# Altium footprint library MF_MiscLib.PcbLib: 108 footprints (part 1 of 7)
Each footprint in its own frame and in the unit in brackets; x right, y up, seen from the top. Pads: shape width x height; smd on the part's side, far side on the other; paste and mask are expansions set on the pad; w line width, h text height; cw(c..) or ccw(c..) is an arc to the next point about the centre after c.
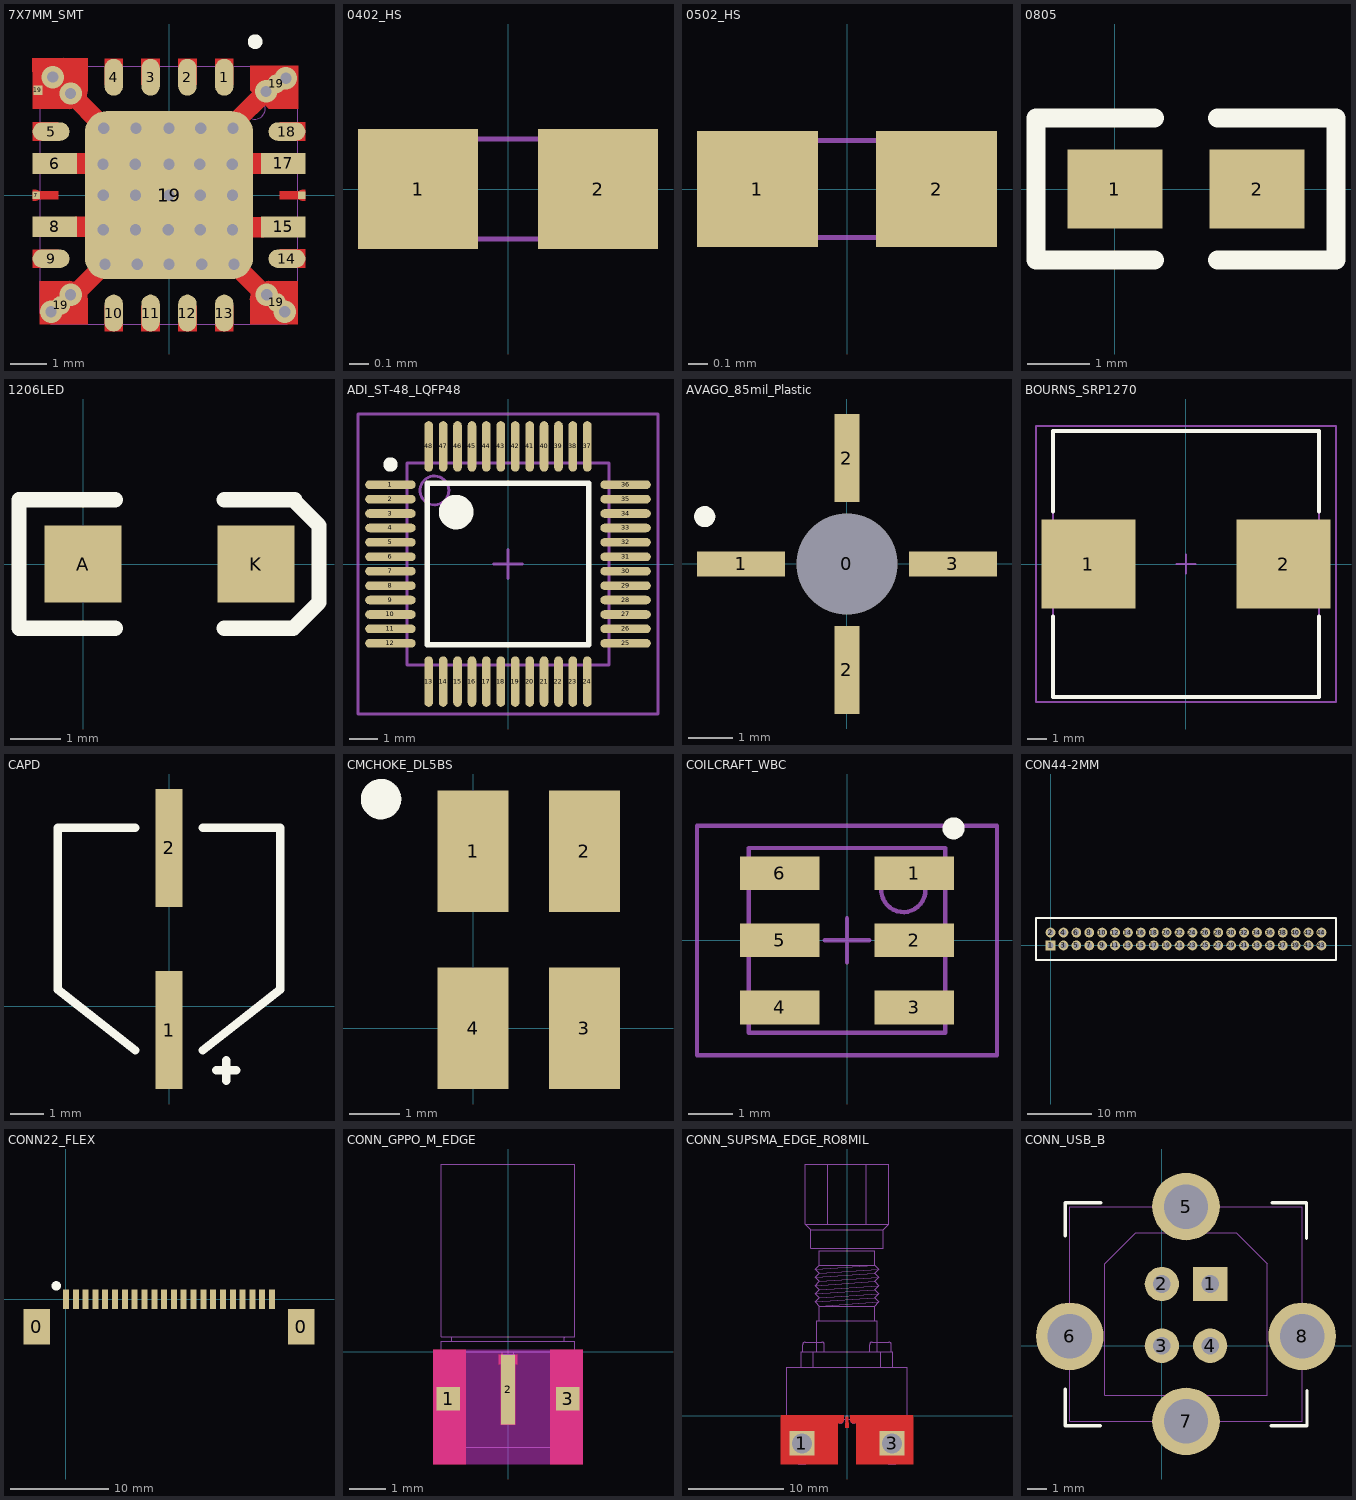
[diagram p0: the footprints below, top view; thin cyan lines are the x and y axes]

## 7X7MM_SMT [mm]
pads (23):
  oval 0.5x1 smd: 1(1.5,3.2) 2(0.5,3.2) 3(-0.5,3.2) 4(-1.5,3.2) 10(-1.5,-3.2) 11(-0.5,-3.2) 12(0.5,-3.2) 13(1.5,-3.2)
  oval 1x0.5 smd: 5(-3.2,1.725) 9(-3.2,-1.725) 14(3.2,-1.725) 18(3.2,1.725)
  rect 1.205x0.567 smd: 6(-3.102,0.855) 8(-3.102,-0.859) 15(3.104,-0.864) 17(3.098,0.861)
  rect 0.2x0.2 smd: 7(-3.6,0) 16(3.6,0)
  rect 0.254x0.254 smd: 19(-3.557,2.842)
  round 0.508 smd: 19(-2.934,-2.992) 19(2.916,-2.909) 19(2.916,3.023)
  rrect25% 4.56x4.56 all layers, no hole: 19(0,0)
via -3.154,3.205 diameter 0.61 hole 0.305
via 1.737,1.813 diameter 0.61 hole 0.305
via 0.86,1.813 diameter 0.61 hole 0.305
via 0,1.813 diameter 0.61 hole 0.305
via -0.893,1.813 diameter 0.61 hole 0.305
via -1.77,1.813 diameter 0.61 hole 0.305
via -1.793,0.84 diameter 0.61 hole 0.305
via -0.916,0.84 diameter 0.61 hole 0.305
via 0,0.84 diameter 0.61 hole 0.305
via 0.837,0.84 diameter 0.61 hole 0.305
via 1.714,0.84 diameter 0.61 hole 0.305
via -1.785,0 diameter 0.61 hole 0.305
via -0.908,0 diameter 0.61 hole 0.305
via 0.845,0 diameter 0.61 hole 0.305
via 1.722,0 diameter 0.61 hole 0.305
via -0.906,-0.941 diameter 0.61 hole 0.305
via 0.847,-0.941 diameter 0.61 hole 0.305
via 1.724,-0.941 diameter 0.61 hole 0.305
via -1.74,-1.875 diameter 0.61 hole 0.305
via -0.863,-1.875 diameter 0.61 hole 0.305
via 0,-1.875 diameter 0.61 hole 0.305
via 0.89,-1.875 diameter 0.61 hole 0.305
via 1.767,-1.875 diameter 0.61 hole 0.305
via -0.021,-0.941 diameter 0.61 hole 0.305
via -2.67,2.758 diameter 0.61 hole 0.305
via 3.172,3.172 diameter 0.61 hole 0.305
via 2.634,2.816 diameter 0.61 hole 0.305
via 3.139,-3.166 diameter 0.61 hole 0.305
via 2.651,-2.703 diameter 0.61 hole 0.305
via -3.199,-3.166 diameter 0.61 hole 0.305
via -2.67,-2.703 diameter 0.61 hole 0.305
via 0,0 diameter 0.61 hole 0.305
via -1.783,-0.941 diameter 0.61 hole 0.305
Top Layer:
  rectangle: 2.177,0.573 2.585,1.139
  rectangle: 2.174,-1.156 2.582,-0.59
  rectangle: -2.557,-1.141 -2.149,-0.575
  rectangle: -2.576,0.577 -2.168,1.143
  region: -3.699,2.347 -3.699,2.972 -3.715,3.716 -2.869,3.727 -2.201,3.721 -2.202,2.843 -2.241,2.648 -2.351,2.482 -2.517,2.372 -2.712,2.333 -2.712,2.343
  region: 1.25,3 1.25,3.7 1.75,3.7 1.75,3
  region: 0.25,3 0.25,3.7 0.75,3.7 0.75,3
  region: -0.75,3 -0.75,3.7 -0.25,3.7 -0.25,3
  region: -1.75,3 -1.75,3.7 -1.25,3.7 -1.25,3
  region: -3.7,1.976 -3,1.976 -3,1.475 -3.7,1.475
  region: -3.7,0.15 -3.6,0.15 -3.5,0.11 -3.001,0.11 -3.001,-0.11 -3.5,-0.11 -3.6,-0.15 -3.7,-0.15
  region: -3.7,-1.475 -3,-1.475 -3,-1.975 -3.7,-1.975
  region: -1.75,-3.7 -1.75,-3 -1.25,-3 -1.25,-3.7
  region: -0.75,-3.7 -0.75,-3 -0.25,-3 -0.25,-3.7
  region: 0.25,-3.7 0.25,-3 0.75,-3 0.75,-3.7
  region: 1.25,-3.7 1.25,-3 1.75,-3 1.75,-3.7
  region: 3,-1.473 3.7,-1.473 3.7,-1.973 3,-1.973
  region: 3.7,0.15 3.6,0.15 3.5,0.11 3,0.11 3,-0.11 3.5,-0.11 3.6,-0.15 3.7,-0.15
  region: 3,1.976 3.7,1.976 3.7,1.475 3,1.475
  region: 2.206,3.512 2.206,2.844 2.706,2.344 3.502,2.344 3.502,3.512
  region: 2.701,-2.324 2.506,-2.363 2.34,-2.473 2.23,-2.639 2.191,-2.834 2.201,-2.834 2.201,-3.502 3.496,-3.502 3.496,-2.334 2.701,-2.334
  region: -3.505,-3.505 -3.505,-2.337 -2.71,-2.327 -2.515,-2.366 -2.349,-2.476 -2.239,-2.642 -2.2,-2.837 -2.21,-2.837 -2.21,-3.505
  lines w0.254: -2.934,-2.992 -2.857,-2.992 ; -1.817,-1.875 -1.74,-1.875 ; -1.77,1.858 -1.77,1.813 -1.77,1.876 ; 1.767,-1.875 1.823,-1.875 ; 2.595,-2.703 2.651,-2.703 ; 1.737,1.813 1.737,1.919 1.737,1.813
  lines w0.508: -2.857,-2.992 -1.74,-1.875 ; -2.67,2.758 -1.77,1.858 ; 1.737,1.919 2.634,2.816 ; 1.767,-1.875 2.595,-2.703
Top Overlay:
  circle w0.254: c2.337,4.166 r0.072
Top Paste:
  drawing of 26 lines, arcs and shapes, not listed
Top Solder:
  region: -3.708,3.708 3.708,3.708 3.708,-3.708 -3.708,-3.708
Bottom Solder:
  region: -3.708,3.708 3.708,3.708 3.708,-3.708 -3.708,-3.708
Mechanical 15:
  circle w0.025: c2.337,2.337 r0.274
  lines w0.025: -3.5,-3.2 cw(c-3.55,-3.55) -3.2,-3.5 -1.7,-3.5 cw(c-1.5,-3.5) -1.3,-3.5 -0.7,-3.5 cw(c-0.5,-3.5) -0.3,-3.5 0.3,-3.5 cw(c0.5,-3.5) 0.7,-3.5 1.3,-3.5 cw(c1.5,-3.5) 1.7,-3.5 3.2,-3.5 cw(c3.55,-3.55) 3.5,-3.2 3.5,-1.92 cw(c3.5,-1.72) 3.5,-1.52 3.5,-1.05 cw(c3.5,-0.85) 3.5,-0.65 3.5,0.65 cw(c3.5,0.85) 3.5,1.05 3.5,1.52 cw(c3.5,1.72) 3.5,1.92 3.5,3.2 cw(c3.55,3.55) 3.2,3.5 1.7,3.5 cw(c1.5,3.5) 1.3,3.5 0.7,3.5 cw(c0.5,3.5) 0.3,3.5 -0.3,3.5 cw(c-0.5,3.5) -0.7,3.5 -1.3,3.5 cw(c-1.5,3.5) -1.7,3.5 -3.2,3.5 cw(c-3.55,3.55) -3.5,3.2 -3.5,1.92 cw(c-3.5,1.72) -3.5,1.52 -3.5,1.05 cw(c-3.5,0.85) -3.5,0.65 -3.5,-0.65 cw(c-3.5,-0.85) -3.5,-1.05 -3.5,-1.52 cw(c-3.5,-1.72) -3.5,-1.92 -3.5,-3.2
3D body: height 1.79, standoff 0, extent -3.501,-3.501 3.501,3.501

## 0402_HS [mil]
pads (2):
  rrect0% 24x24 smd: 1(-18,0) 2(18,0)
Mechanical 15:
  lines w1: -20,-10 -20,10 20,10 20,-10 -20,-10

## 0502_HS [mil]
pads (2):
  rect 25x24 smd: 1(-18.5,0) 2(18.5,0)
Mechanical 15:
  lines w1: -25,-10 -25,10 25,10 25,-10 -25,-10

## 0805 [mil]
pads (2):
  rect 60x50 smd: 1(0,0) 2(90,0)
Top Overlay:
  lines w12: 25,-45 -50,-45 -50,45 25,45 ; 65,-45 140,-45 140,45 65,45

## 1206LED [mil]
pads (2):
  rect 60x60 smd: A(0,0.33) K(135,0.33)
Top Overlay:
  lines w12: 25,-49.67 -50,-49.67 -50,50.33 25,50.33 ; 110,-49.67 164,-49.67 184,-29.67 184,30.33 165,49.33 165,50.33 110,50.33

## ADI_ST-48_LQFP48 [mm] "LQFP, 48-Leads, Body 9.2x9.2mm (max), Pitch 0.50mm, IPC Medium Density"
height 1.6
pads (48):
  oval 1.75x0.3 smd: 1(-4.075,2.75) 2(-4.075,2.25) 3(-4.075,1.75) 4(-4.075,1.25) 5(-4.075,0.75) 6(-4.075,0.25) 7(-4.075,-0.25) 8(-4.075,-0.75) 9(-4.075,-1.25) 10(-4.075,-1.75) 11(-4.075,-2.25) 12(-4.075,-2.75) 25(4.075,-2.75) 26(4.075,-2.25) 27(4.075,-1.75) 28(4.075,-1.25) 29(4.075,-0.75) 30(4.075,-0.25) 31(4.075,0.25) 32(4.075,0.75) 33(4.075,1.25) 34(4.075,1.75) 35(4.075,2.25) 36(4.075,2.75)
  oval 0.3x1.75 smd: 13(-2.75,-4.075) 14(-2.25,-4.075) 15(-1.75,-4.075) 16(-1.25,-4.075) 17(-0.75,-4.075) 18(-0.25,-4.075) 19(0.25,-4.075) 20(0.75,-4.075) 21(1.25,-4.075) 22(1.75,-4.075) 23(2.25,-4.075) 24(2.75,-4.075) 37(2.75,4.075) 38(2.25,4.075) 39(1.75,4.075) 40(1.25,4.075) 41(0.75,4.075) 42(0.25,4.075) 43(-0.25,4.075) 44(-0.75,4.075) 45(-1.25,4.075) 46(-1.75,4.075) 47(-2.25,4.075) 48(-2.75,4.075)
Top Overlay:
  circle w0.6: c-1.8,1.8 r0.3
  circle w0.25: c-4.075,3.45 r0.125
  lines w0.2: -2.8,-2.8 2.8,-2.8 2.8,2.8 -2.8,2.8 -2.8,-2.8
Mechanical 13:
  circle w0.1: c-2.55,2.55 r0.5
  lines w0.1: -3.5,-3.5 3.5,-3.5 3.5,3.5 -3.5,3.5 -3.5,-3.5
Mechanical 15:
  lines w0.1: -0.5,0 0.5,0 ; 0,-0.5 0,0.5 ; -5.2,-5.2 5.2,-5.2 5.2,5.2 -5.2,5.2 -5.2,-5.2
3D body: height 1.6, standoff 0.05, extent -3.5,-3.5 3.5,3.5

## AVAGO_85mil_Plastic [mm]
height 1.25
pads (5):
  round 1.524 hole 2.28 unplated: 0(0,0)
  rect 2x0.56 smd: 1(-2.4,0) 3(2.4,0)
  rect 0.56x2 smd: 2(0,-2.4) 2(0,2.4)
Top Overlay:
  circle w0.254: c-3.225,1.075 r0.112

## BOURNS_SRP1270 [mm] "Precision Wire Wound Inductor, 2-Leads, Body 13.7x13.7mm, IPC Medium Density"
height 7
pads (2):
  rect 4.85x4.6 smd: 1(-5.025,0) 2(5.025,0)
Top Overlay:
  lines w0.2: -6.85,-2.7 -6.85,-6.85 6.85,-6.85 6.85,-2.7 ; -6.85,2.7 -6.85,6.85 6.85,6.85 6.85,2.7
Mechanical 13:
  lines w0.1: -6.85,-6.85 6.85,-6.85 6.85,6.85 -6.85,6.85 -6.85,-6.85
Mechanical 15:
  lines w0.1: -0.5,0 0.5,0 ; 0,-0.5 0,0.5 ; -7.725,-7.1 7.725,-7.1 7.725,7.1 -7.725,7.1 -7.725,-7.1
3D body: height 7, standoff 0, extent -6.85,-6.85 6.85,6.85

## CAPD [mm]
pads (2):
  rect 0.8x3.5 smd: 1(0,-0.7) 2(0,4.7)
Top Overlay:
  lines w0.254: -1,-1.3 -3.3,0.5 -3.3,5.3 -1,5.3 ; 1,-1.3 3.3,0.5 3.3,5.3 1,5.3 ; 1.4,-1.9 2,-1.9 ; 1.7,-2.2 1.7,-1.6

## CMCHOKE_DL5BS [mm] "Murata common mode choke"
height 4.5
pads (4):
  rect 1.4x2.4 smd: 1(0,3.5) 2(2.2,3.5) 3(2.2,0) 4(0,0)
Top Overlay:
  circle w0.4: c-1.819,4.531 r0.2
3D body: height 4.5, standoff 0.4, extent -1.41,-0.753 3.59,4.247

## COILCRAFT_WBC [mm] "COILCRAFT WBC SMT TRANSFORMER"
height 3.05
pads (6):
  rect 1.8x0.76 smd: 1(1.525,1.52) 2(1.525,0) 3(1.525,-1.52) 4(-1.525,-1.52) 5(-1.525,0) 6(-1.525,1.52)
Top Overlay:
  circle w0.25: c2.415,2.54 r0.125
Mechanical 13:
  circle w0.1: c1.278,1.143 r0.5
  lines w0.1: -2.225,-2.095 2.225,-2.095 2.225,2.095 -2.225,2.095 -2.225,-2.095
Mechanical 15:
  lines w0.1: -0.5,0 0.5,0 ; 0,-0.5 0,0.5 ; -3.4,-2.6 3.4,-2.6 3.4,2.6 -3.4,2.6 -3.4,-2.6
3D body: height 3.05, standoff 0, extent -2.225,-2.095 2.225,2.095

## CON44-2MM [mil]
pads (44):
  rect 60x60 hole 35: 1(0,0)
  round 60 hole 35: 2(0,78.74) 3(78.74,0) 4(78.74,78.74) 5(157.48,0) 6(157.48,78.74) 7(236.22,0) 8(236.22,78.74) 9(314.96,0) 10(314.96,78.74) 11(393.7,0) 12(393.7,78.74) 13(472.44,0) 14(472.44,78.74) 15(551.18,0) 16(551.18,78.74) 17(629.92,0) 18(629.92,78.74) 19(708.66,0) 20(708.66,78.74) 21(787.4,0) 22(787.4,78.74) 23(866.14,0) 24(866.14,78.74) 25(944.88,0) 26(944.88,78.74) 27(1023.62,0) 28(1023.62,78.74) 29(1102.36,0) 30(1102.36,78.74) 31(1181.1,0) 32(1181.1,78.74) 33(1259.84,0) 34(1259.84,78.74) 35(1338.58,0) 36(1338.58,78.74) 37(1417.32,0) 38(1417.32,78.74) 39(1496.06,0) 40(1496.06,78.74) 41(1574.8,0) 42(1574.8,78.74) 43(1653.54,0) 44(1653.54,78.74)
Top Overlay:
  lines w10: -88.58,-88.58 -88.58,167.32 1742.13,167.32 1742.13,-88.58 -88.58,-88.58

## CONN22_FLEX [mm] "TE Connectivity 2-84953-2 22 pin Flex circuit connector"
height 2.56
pads (24):
  rect 2.68x3.6 smd: 0(-2.99,-2.8) 0(23.99,-2.8)
  rect 0.61x2 smd: 1(0,0) 2(1,0) 3(2,0) 4(3,0) 5(4,0) 6(5,0) 7(6,0) 8(7,0) 9(8,0) 10(9,0) 11(10,0) 12(11,0) 13(12,0) 14(13,0) 15(14,0) 16(15,0) 17(16,0) 18(17,0) 19(18,0) 20(19,0) 21(20,0) 22(21,0)
Top Overlay:
  circle w0.48: c-0.995,1.377 r0.24
3D body: height 2.56, standoff 0, extent -4.432,-4.702 25.432,0.566

## CONN_GPPO_M_EDGE [mil]
pads (3):
  rect 25x25 smd: 1(-64,-50) 3(64,-50)
  rect 15x75 smd: 2(0,-40.5)
Top Layer:
  region: 80,2 45,2 45,-120 80,-120
  region: -7.5,-78 -7.5,-13 -10,-13 -10,-3 10,-3 10,-13 7.5,-13 7.5,-78
  region: -80,2 -45,2 -45,-120 -80,-120
Keep-Out Layer:
  region: 0,2 80,2 80,-120 0,-120
  region: -80,2 0,2 0,-120 -80,-120
Mechanical 15:
  circle w1: c-65,-22 r12.5
  circle w1: c-65,-60 r12.5
  circle w1: c-65,-100 r12.5
  circle w1: c65,-22 r12.5
  circle w1: c65,-60 r12.5
  circle w1: c65,-100 r12.5
  lines w1: 60.24,15.35 60,16 ; -71.5,-102 -71.5,0 71.5,0 71.5,-102 ; -71.5,-102 71.5,-102 ; -71.5,-102 -51.5,-102 -51.5,0 51.5,0 51.5,-102 71.5,-102 ; -71.5,-102 -71.5,11.42 71.5,11.42 71.5,-102 ; -60,16 60,16 ; -60,16 -60,11.42 60,11.42 60,16 ; -60,16 -71.5,16 -71.5,201 71.5,201 71.5,16 60,16 ; -6,-69 6,-69 6,0 -6,0 -6,-69

## CONN_SUPSMA_EDGE_RO8MIL [mil]
pads (3):
  rect 103x103 hole 83: 1(-187,-114) 3(187,-114)
  rect 12x2 smd: 2(0,-49)
Top Layer:
  region: 6,-3 -6,-3 -7.5,-50 7.5,-50
  region: 275,2 14,2 14,-23 21,-30 39.37,-30 39.37,-200 275,-200
  region: -275,2 -14,2 -14,-23 -21,-30 -39.37,-30 -39.37,-200 -275,-200
Top Solder:
  region: 0,2 275,2 275,-200 0,-200
  region: -275,2 0,2 0,-200 -275,-200
Mechanical 15:
  circle w1: c-187,-114 r85.76
  circle w1: c-187,-114 r73.54
  circle w1: c187,-114 r73.54
  circle w1: c187,-114 r85.76
  circle w1: c122,-101.8 r12.5
  circle w1: c122,-180.6 r12.5
  circle w1: c62,-180.6 r12.5
  circle w1: c62,-141.2 r12.5
  circle w1: c62,-101.8 r12.5
  circle w1: c62,-62.4 r12.5
  circle w1: c-62,-181 r12.5
  circle w1: c-62,-141.6 r12.5
  circle w1: c-62,-102.2 r12.5
  circle w1: c-62,-62.8 r12.5
  circle w1: c-122,-102.2 r12.5
  circle w1: c-122,-181 r12.5
  circle w1: c-187,-114 r85.76
  circle w1: c-187,-114 r73.54
  circle w1: c187,-114 r73.54
  circle w1: c187,-114 r85.76
  circle w1: c-26,-18 r11.5
  circle w1: c26,-18 r11.5
  circle w1: c-56,-18 r11.5
  circle w1: c-116,-18 r11.5
  circle w1: c-86,-18 r11.5
  circle w1: c56,-18 r11.5
  circle w1: c86,-18 r11.5
  circle w1: c116,-18 r11.5
  lines w1: -273,-114 -101,-114 ; -187,-200 -187,-28 ; 101,-114 273,-114 ; 131,541 -115,524 ; 187,-200 187,-28 ; -173,795 -150,772 ; -173,795 -173,1046 173,1046 173,795 ; -173,795 173,795 ; -173,795 -150,772 ; -150,772 -150,696 150,696 150,772 ; -150,772 150,772 ; -132,473 -115,456 ; -132,473 -115,490 ; -132,473 115,490 ; -132,507 -115,490 ; -132,507 -115,524 ; -132,507 115,524 ; -132,541 -115,524 ; -132,541 -115,558 ; -132,541 115,558 ; -132,575 -115,558 ; -132,575 -115,592 ; -132,575 115,592 ; -132,609 -115,592 ; -132,609 -115,626 ; -132,609 115,626 ; -115,456 -115,396 115,396 115,456 ; -115,456 115,456 ; -115,456 115,456 ; -115,456 132,473 ; -115,490 132,507 ; -115,558 132,575 ; -115,592 132,609 ; -115,626 -115,686 115,686 115,626 ; -115,626 115,626 ; -115,626 115,626 ; 115,456 132,473 ; 115,490 132,507 ; 115,490 132,473 ; 115,524 132,541 115,558 ; 115,524 132,507 ; 115,558 132,575 ; 115,592 132,609 ; 115,592 132,575 ; 115,626 132,609 ; 150,772 173,795 ; 150,772 173,795 ; -250,-186 -125,-186 -125,-65 cw(c-75,-65) -75,-15 75,-15 cw(c75,-65) 125,-65 125,-186 250,-186 250,202 -250,202 -250,-186 ; -190,202 140,202 140,266 -190,266 -190,202 ; -184,266 -184,296 cw(c-174,296) -174,306 -104,306 cw(c-104,296) -94,296 -94,266 -184,266 ; -140,202 190,202 190,266 -140,266 -140,202 ; -125,266 125,266 125,396 -125,396 -125,266 ; -80,795 80,795 80,1046 -80,1046 -80,795 ; -2.5,-43.37 -2.5,0 2.5,0 2.5,-43.37 -2.5,-43.37 ; 94,266 94,296 cw(c104,296) 104,306 174,306 cw(c174,296) 184,296 184,266 94,266
  text "SOUTHWEST" at -133,120 h25

## CONN_USB_B [mm]
pads (8):
  rect 1.778x1.778 / inner round 1.778 / far side rect 1.778x1.778 hole 0.92: 1(2.5,3.2)
  round 1.778 hole 0.92: 2(0,3.2) 3(0,0) 4(2.5,0)
  round 3.5 hole 2.3: 5(1.25,7.21) 6(-4.77,0.49) 7(1.25,-3.92) 8(7.27,0.49)
Top Overlay:
  lines w0.178: -5.004,-2.261 -5.004,-4.14 -3.2,-4.14 ; -5.004,5.69 -5.004,7.417 -3.175,7.417 ; 5.662,-4.14 7.518,-4.14 7.518,-2.32 ; 5.715,7.417 7.493,7.417 7.493,5.563
Mechanical 15:
  lines w0.025: -4.77,-3.92 -4.77,7.21 7.27,7.21 7.27,-3.92 -4.77,-3.92 ; -2.946,-2.565 -2.946,4.242 -1.346,5.842 3.861,5.842 5.461,4.242 5.461,-2.565 -2.946,-2.565
3D body: height 16, standoff -4.54, extent -6.243,-4.129 8.853,7.371